# EAGLE library part CAT16-103J8LF (library CAT16-103J8LF)
Bourns CAT16 Series 10k +/-5% Isolated SMT Resistor Array, 8 Resistors, 0.25W total 2406 Package Concave Source: Datasheet <http://docs-emea.rs-online.com/webdocs/064e/0900766b8064e462.pdf>
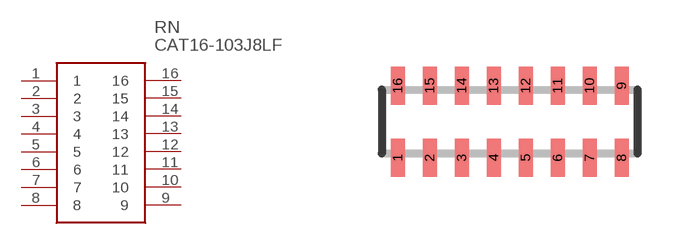
[diagram p0: symbol with the pads of CAT16_J8; footprint CAT16_J8]

Designator prefix RN

## CAT16-103J8LF (Description: Bourns CAT16 Series 10k +/-5% Isolated SMT Resistor Array, 8 Resistors, 0.25W total 2406 Package Concave; Height: mm; Manufacturer_Name: Bourns; Manufacturer_Part_Number: CAT16-103J8LF; Mouser_Part_Number: 652-CAT16-103J8LF; Mouser_Price-Stock: https://www.mouser.com/Search/Refine.aspx?Keyword=652-CAT16-103J8LF; RS_Part_Number: 7408739P; RS_Price-Stock: http://uk.rs-online.com/web/p/products/7408739P)  [CAT16_J8]
1  1
2  2
3  3
4  4
5  5
6  6
7  7
8  8
9  9
10  10
11  11
12  12
13  13
14  14
15  15
16  16

## Footprint CAT16_J8 (pad centres in mm)
CAT16_J8
smd 0.35 x 0.95: 1 -2.8,-0.9; 2 -2,-0.9; 3 -1.2,-0.9; 4 -0.4,-0.9; 5 0.4,-0.9; 6 1.2,-0.9; 7 2,-0.9; 8 2.8,-0.9; 9 2.8,0.9; 10 2,0.9; 11 1.2,0.9; 12 0.4,0.9; 13 -0.4,0.9; 14 -1.2,0.9; 15 -2,0.9; 16 -2.8,0.9